# Altium footprint library Home.PcbLib: 27 footprints (part 1 of 2)
Each footprint in its own frame and in the unit in brackets; x right, y up, seen from the top. Pads: shape width x height; smd on the part's side, far side on the other; paste and mask are expansions set on the pad; w line width, h text height; cw(c..) or ccw(c..) is an arc to the next point about the centre after c.
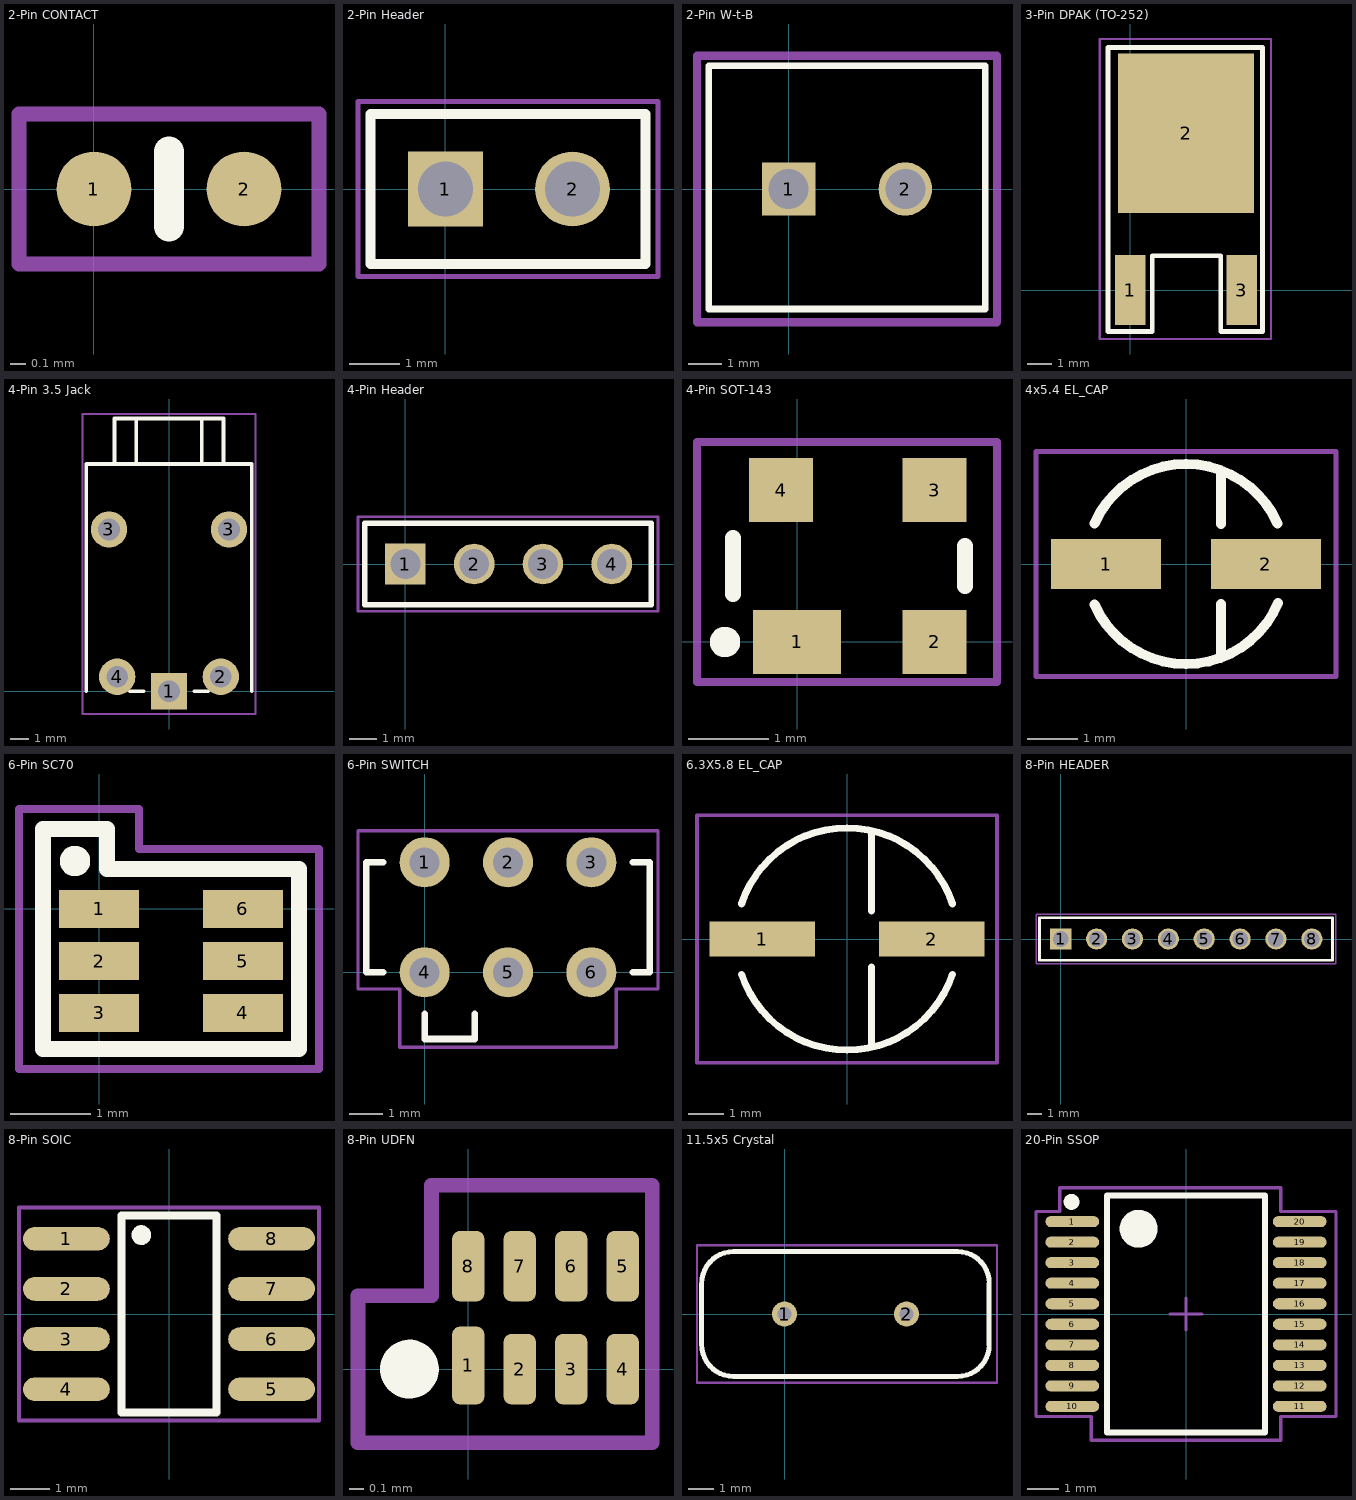
[diagram p0: the footprints below, top view; thin cyan lines are the x and y axes]

## 2-Pin CONTACT [mm]
pads (2):
  round 0.5 smd mask+0.035: 1(0,0) 2(1,0)
Top Overlay:
  lines w0.2: 0.5,-0.25 0.5,0.25
Top Courtyard:
  lines w0.1: -0.5,-0.5 1.5,-0.5 1.5,0.5 -0.5,0.5 -0.5,-0.5

## 2-Pin Header [mm]
height 8.54
pads (2):
  rect 1.5x1.5 hole 1.1 mask+0.035: 1(0,0)
  round 1.5 hole 1.1 mask+0.035: 2(2.54,0)
Top Overlay:
  lines w0.2: -1.5,-1.5 4,-1.5 4,1.5 -1.5,1.5 -1.5,-1.5
Top Courtyard:
  lines w0.1: -1.75,-1.75 -1.75,1.75 4.25,1.75 4.25,-1.75 -1.75,-1.75
3D body "User Library-Header_Male_2Pin.STEP": height 8.54, standoff -3, extent -1.27,-1.245 3.81,1.245

## 2-Pin W-t-B [mm] "1776275-2"
height 8.3
pads (2):
  rect 1.6x1.6 hole 1.2 mask+0.035: 1(0,0)
  round 1.6 hole 1.2 mask+0.035: 2(3.5,0)
Top Overlay:
  lines w0.2: -2.4,-3.6 -2.4,3.7 5.9,3.7 5.9,-3.6 -2.4,-3.6
Top Courtyard:
  lines w0.254: -2.75,-4 -2.75,4 6.25,4 6.25,-4 -2.75,-4
3D body "97m9695_1776275-2.stp": height 8.3, standoff -4.2, extent -2.25,-3.45 5.75,3.55

## 3-Pin DPAK (TO-252) [mm]
height 2.4
pads (3):
  rect 1.25x2.85 smd mask+0.035: 1(0,0) 3(4.56,0)
  rect 5.55x6.5 smd mask+0.035: 2(2.28,6.4)
Top Overlay:
  lines w0.2: -0.9,-1.7 0.9,-1.7 0.9,1.4 3.7,1.4 3.7,-1.7 5.4,-1.7 5.4,9.9 -0.9,9.9 -0.9,-1.7
Top Courtyard:
  lines w0.1: -1.25,-2 -1.25,10.25 5.75,10.25 5.75,-2 -1.25,-2
3D body "User Library-DPAK_TO-252AA.STEP": height 2.37, standoff -0.03, extent -1.117,-0.5 5.617,9.6

## 4-Pin 3.5 Jack [mm]
height 6.8
pads (5):
  rect 2x2 hole 1.2 mask+0.035: 1(0,0)
  round 2 hole 1.2 mask+0.035: 2(2.85,0.8) 3(-3.3,8.9) 3(3.3,8.9) 4(-2.85,0.8)
Top Overlay:
  lines w0.2: -4.55,0 -4.55,12.5 -3,12.5 ; -2.15,0 -1.4,0 ; -1.8,12.5 -1.8,15 ; 1.4,0 2.15,0 ; 1.8,12.5 1.8,15 ; 4.55,0 4.55,12.5 3,12.5 ; -3,12.5 0,12.5 3,12.5 ; -3,12.5 -3,15 0,15 3,15 3,12.5
Top Courtyard:
  lines w0.1: -4.75,-1.25 -4.75,12.75 -4.75,15.25 4.75,15.25 4.75,12.75 4.75,-1.25 -4.75,-1.25
3D body "User Library-KLS1-SSJ3_5-007 (Dip Stereo Jack).STEP": height 7, standoff -1, extent -3.6,0 3.6,15

## 4-Pin Header [mm]
height 8.54
pads (4):
  rect 1.5x1.5 hole 1.1 mask+0.035: 1(0,0)
  round 1.5 hole 1.1 mask+0.035: 2(2.54,0) 3(5.08,0) 4(7.62,0)
Top Overlay:
  lines w0.2: 1.04,-1.5 6.54,-1.5 ; 1.04,1.5 6.54,1.5 ; 3.58,-1.5 9.08,-1.5 9.08,1.5 3.58,1.5 ; 4,-1.5 -1.5,-1.5 -1.5,1.5 4,1.5
Top Courtyard:
  lines w0.1: 0.79,-1.75 6.79,-1.75 ; 0.79,1.75 6.79,1.75 ; 3.33,-1.75 9.33,-1.75 9.33,1.75 3.33,1.75 ; 4.25,-1.75 -1.75,-1.75 -1.75,1.75 4.25,1.75
3D body "User Library-Header_Male_2Pin.STEP": height 8.54, standoff -3, extent -1.27,-1.245 3.81,1.245
3D body "User Library-Header_Male_2Pin.STEP": height 8.54, standoff -3, extent 3.81,-1.245 8.89,1.245

## 4-Pin SOT-143 [mm]
height 1.22
pads (4):
  rect 1.1x0.8 smd mask+0.035: 1(0,0)
  rect 0.8x0.8 smd mask+0.035: 2(1.72,0) 3(1.72,1.9) 4(-0.2,1.9)
Top Overlay:
  circle w0.2: c-0.9,0 r0.09
  lines w0.2: -0.8,0.6 -0.8,1.3 ; 2.1,0.7 2.1,1.2
Top Courtyard:
  lines w0.1: -1.25,-0.5 2.5,-0.5 2.5,2.5 -1.25,2.5 -1.25,-0.5
3D body "User Library-sot143.STEP": height 1, standoff 0, extent -0.71,-0.26 2.21,2.16

## 4x5.4 EL_CAP [mm]
height 5.4
pads (2):
  rect 2.2x1 smd mask+0.035: 1(-1.6,0) 2(1.6,0)
Top Overlay:
  lines w0.2: -1.828,-0.812 ccw(c0,0) 0,-2 ccw(c0,0) 1.843,-0.776 ; -1.828,0.812 cw(c0,0) 0,2 cw(c0,0) 1.828,0.812 ; 0.7,-1.8 0.7,-0.8 ; 0.7,0.8 0.7,1.8
Top Courtyard:
  lines w0.1: -3,-2.25 3,-2.25 3,2.25 -3,2.25 -3,-2.25
3D body "User Library-CAP SMD SVP 4_0x5_4.STEP": height 5.4, standoff 0, extent -2.5,-2.15 2.5,2.15

## 6-Pin SC70 [mm]
height 1.1
pads (6):
  rect 1x0.47 smd mask+0.035: 1(0,0) 2(0,-0.65) 3(0,-1.3) 4(1.8,-1.3) 5(1.8,-0.65) 6(1.8,0)
Top Overlay:
  circle w0.2: c-0.3,0.6 r0.09
  lines w0.2: -0.7,-1.75 -0.7,1 0.1,1 0.1,0.5 2.5,0.5 2.5,-1.75 -0.7,-1.75
Top Courtyard:
  lines w0.1: -1,-2 -1,1.25 -0.75,1.25 0.5,1.25 0.5,0.75 2.75,0.75 2.75,-2 -1,-2
3D body "SW3dPS-SC70-6.STEP": height 0.92, standoff -0.03, extent -0.15,-1.6 1.95,0.4

## 6-Pin SWITCH [mm]
height 0.138
pads (6):
  round 1.5 hole 0.9 mask+0.035: 1(0,3.3) 2(2.5,3.3) 3(5,3.3) 4(0,0) 5(2.5,0) 6(5,0)
Top Overlay:
  lines w0.2: -1.25,0 -1.75,0 -1.75,3.3 -1.25,3.3 ; 0,-1.25 0,-2 1.5,-2 1.5,-1.25 ; 6.25,0 6.75,0 6.75,3.3 6.25,3.3
Top Courtyard:
  lines w0.1: -2,-0.5 -2,4.25 7,4.25 7,-0.5 5.75,-0.5 5.75,-2.25 -0.75,-2.25 -0.75,-0.5 -2,-0.5

## 6.3X5.8 EL_CAP [mm]
height 5.8
pads (2):
  rect 3x1 smd mask+0.035: 1(-2.4,0) 2(2.4,0)
Top Overlay:
  lines w0.2: -2.988,0.996 cw(c0,0) 0,3.15 cw(c0,0) 2.988,0.996 ; -2.987,-1 ccw(c0,0) 0,-3.15 ccw(c0,0) 2.987,-1 ; 0.7,-3.05 0.7,-0.8 ; 0.7,0.8 0.7,3.05
Top Courtyard:
  lines w0.1: -4.25,-3.5 -4.25,3.5 4.25,3.5 4.25,-3.5 -4.25,-3.5
3D body "User Library-capasitores electroliticos.step": height 5.55, standoff 0, extent -3.3,-3.3 3.3,3.3

## 8-Pin HEADER [mm]
height 8.54
pads (8):
  rect 1.5x1.5 hole 1.1 mask+0.035: 1(0,0)
  round 1.5 hole 1.1 mask+0.035: 2(2.54,0) 3(5.08,0) 4(7.62,0) 5(10.16,0) 6(12.7,0) 7(15.24,0) 8(17.78,0)
Top Overlay:
  lines w0.2: 1.04,-1.5 6.54,-1.5 ; 1.04,1.5 6.54,1.5 ; 4,-1.5 -1.5,-1.5 -1.5,1.5 4,1.5 ; 6.12,-1.5 11.62,-1.5 ; 6.12,1.5 11.62,1.5 ; 11.2,-1.5 16.7,-1.5 ; 11.2,1.5 16.7,1.5 ; 13.74,-1.5 19.24,-1.5 19.24,1.5 13.74,1.5 ; 3.58,-1.5 9.08,-1.5 3.58,-1.5 ; 3.58,1.5 9.08,1.5 3.58,1.5 ; 8.66,-1.5 14.16,-1.5 8.66,-1.5 ; 8.66,1.5 14.16,1.5 8.66,1.5
Top Courtyard:
  lines w0.1: 0.79,-1.75 6.79,-1.75 ; 0.79,1.75 6.79,1.75 ; 4.25,-1.75 -1.75,-1.75 -1.75,1.75 4.25,1.75 ; 5.87,-1.75 11.87,-1.75 ; 5.87,1.75 11.87,1.75 ; 10.95,-1.75 16.95,-1.75 ; 10.95,1.75 16.95,1.75 ; 13.49,-1.75 19.49,-1.75 19.49,1.75 13.49,1.75 ; 3.33,-1.75 9.33,-1.75 3.33,-1.75 ; 3.33,1.75 9.33,1.75 3.33,1.75 ; 8.41,-1.75 14.41,-1.75 8.41,-1.75 ; 8.41,1.75 14.41,1.75 8.41,1.75
3D body "User Library-Header_Male_2Pin.STEP": height 8.54, standoff -3, extent 8.89,-1.245 13.97,1.245
3D body "User Library-Header_Male_2Pin.STEP": height 8.54, standoff -3, extent 13.97,-1.245 19.05,1.245
3D body "User Library-Header_Male_2Pin.STEP": height 8.54, standoff -3, extent 3.81,-1.245 8.89,1.245
3D body "User Library-Header_Male_2Pin.STEP": height 8.54, standoff -3, extent 8.89,-1.245 13.97,1.245
3D body "User Library-Header_Male_2Pin.STEP": height 8.54, standoff -3, extent 3.81,-1.245 8.89,1.245
3D body "User Library-Header_Male_2Pin.STEP": height 8.54, standoff -3, extent -1.27,-1.245 3.81,1.245

## 8-Pin SOIC [mm] "Narrow body"
height 1.75
pads (8):
  oval 2.2x0.6 smd mask+0.035: 1(-2.6,1.905) 2(-2.6,0.635) 3(-2.6,-0.635) 4(-2.6,-1.905) 5(2.6,-1.905) 6(2.6,-0.635) 7(2.6,0.635) 8(2.6,1.905)
Top Overlay:
  circle w0.25: c-0.7,2 r0.125
  lines w0.2: -1.2,-2.5 1.2,-2.5 1.2,2.5 -1.2,2.5 -1.2,-2.5
Top Courtyard:
  lines w0.1: -3.8,-2.7 3.8,-2.7 3.8,2.7 -3.8,2.7 -3.8,-2.7
3D body "User Library-so8-3.step": height 1.7, standoff 0, extent -3,-2.45 3,2.45

## 8-Pin UDFN [mm]
height 0.55
pads (8):
  rrect50% 0.22x0.53 smd mask+0.035: 1(0,0.025)
  rrect50% 0.22x0.48 smd mask+0.035: 2(0.35,0) 3(0.7,0) 4(1.05,0) 5(1.05,0.7) 6(0.7,0.7) 7(0.35,0.7) 8(0,0.7)
Top Overlay:
  circle w0.2: c-0.4,0 r0.1
Top Courtyard:
  lines w0.1: -0.75,-0.5 1.25,-0.5 1.25,1.25 -0.25,1.25 -0.25,0.5 -0.75,0.5 -0.75,-0.5

## 11.5x5 Crystal [mm]
height 2.68
pads (2):
  round 1 hole 0.55 mask+0.035: 1(0,0) 2(4.88,0)
Top Overlay:
  lines w0.2: -3.31,-1.23 ccw(c-2.04,-1.23) -2.04,-2.5 4.25,-2.5 6.92,-2.5 ccw(c6.92,-1.23) 8.19,-1.23 8.19,-1 8.19,1 8.19,1.23 ccw(c6.92,1.23) 6.92,2.5 5,2.5 -2.04,2.5 ccw(c-2.04,1.23) -3.31,1.23 -3.31,1 -3.31,-1 -3.31,-1.23
Top Courtyard:
  lines w0.1: -3.5,-2.75 8.5,-2.75 8.5,2.75 -3,2.75 -3.5,2.75 -3.5,-2.75
3D body "SW3dPS-HP49US.STEP": height 3.5, standoff -4, extent -3.225,-2.325 8.125,2.325

## 20-Pin SSOP [mm]
height 1.99
pads (20):
  oval 1.7x0.35 smd mask+0.035: 1(-3.6,2.925) 2(-3.6,2.275) 3(-3.6,1.625) 4(-3.6,0.975) 5(-3.6,0.325) 6(-3.6,-0.325) 7(-3.6,-0.975) 8(-3.6,-1.625) 9(-3.6,-2.275) 10(-3.6,-2.925) 11(3.6,-2.925) 12(3.6,-2.275) 13(3.6,-1.625) 14(3.6,-0.975) 15(3.6,-0.325) 16(3.6,0.325) 17(3.6,0.975) 18(3.6,1.625) 19(3.6,2.275) 20(3.6,2.925)
Top Overlay:
  circle w0.25: c-3.625,3.55 r0.125
  circle w0.6: c-1.5,2.7 r0.3
  lines w0.2: -2.5,-3.75 2.5,-3.75 2.5,3.75 -2.5,3.75 -2.5,-3.75
Top Courtyard:
  lines w0.1: -0.5,0 0.5,0 ; 0,-0.5 0,0.5 ; -4.75,-3.25 -3,-3.25 -3,-4 3,-4 3,-3.25 4.75,-3.25 4.75,3.25 3,3.25 3,4 -4,4 -4,3.25 -4.75,3.25 -4.75,-3.25
3D body "User Library-IPC SO.step": height 2.15, standoff 0, extent -3.928,-3.75 3.928,3.75